# Altium footprint library connectortru.PcbLib: 5 footprints
Each footprint in its own frame and in the unit in brackets; x right, y up, seen from the top. Pads: shape width x height; smd on the part's side, far side on the other; paste and mask are expansions set on the pad; w line width, h text height; cw(c..) or ccw(c..) is an arc to the next point about the centre after c.
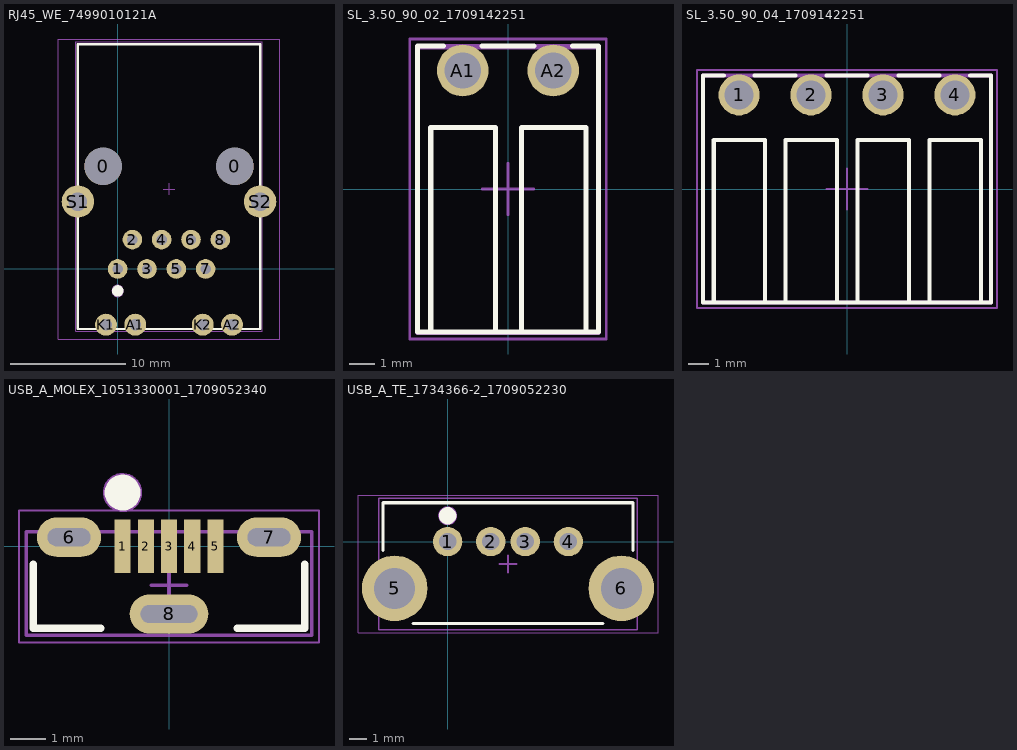
[diagram p0: the footprints below, top view; thin cyan lines are the x and y axes]

## RJ45_WE_7499010121A [mm] "RJ45 100Mb CONNECTOR TRANSFORMER Y/G WE_7499010121A"
height 1.75
pads (16):
  round 3.25 hole 3.25 unplated: 0(-1.27,8.89) 0(10.16,8.89)
  round 1.7 hole 0.9: 1(0,0) 2(1.27,2.54) 3(2.54,0) 4(3.81,2.54) 5(5.08,0) 6(6.35,2.54) 7(7.62,0) 8(8.89,2.54)
  round 1.9 hole 1.02: A1(1.52,-4.83) A2(9.91,-4.83) K1(-1.02,-4.83) K2(7.37,-4.83)
  round 2.8 hole 1.6: S1(-3.455,5.84) S2(12.345,5.84)
Top Overlay:
  circle w0.6: c0,-1.905 r0.2
  lines w0.2: -3.454,-5.207 -3.454,19.482 -0.147,19.482 0.953,19.482 12.344,19.482 12.344,-5.207 -3.454,-5.207
Assembly Outline:
  circle w0.1: c0,-1.905 r0.5
  lines w0.1: -3.655,-5.41 12.545,-5.41 12.545,19.69 -3.655,19.69 -3.655,-5.41
Assembly Refdes:
  text ".Designator" at 4.445,6.93 h0.5
Courtyard Outline:
  lines w0.05: -5.155,-6.07 14.045,-6.07 14.045,19.93 12.545,19.93 -5.155,19.93 -5.155,-6.07
  lines w0.1: 3.945,6.93 4.945,6.93 ; 4.445,6.43 4.445,7.43
3D body "STEP-7499010121A-rev1.stp": height 13.81, standoff -3.59, extent -3.755,-5.532 12.645,19.768

## SL_3.50_90_02_1709142251 [mm] "OMNIMATE Signal - Serie BL/SL 3.50  SL 3.50/02/90 3.2"
height 7.5
pads (2):
  round 2 hole 1.4: A1(-1.75,4.58) A2(1.75,4.58)
Top Overlay:
  lines w0.2: -3.5,2.425 -3.5,-5.525 ; -2.984,-5.525 -2.984,2.382 -0.484,2.382 -0.484,-5.525 ; -2.5,5.525 -3.5,5.525 -3.5,-5.525 ; -1,5.525 1,5.525 ; 0.516,-5.525 0.516,2.382 3.016,2.382 3.016,-5.525 ; 2.5,5.525 3.5,5.525 3.5,-5.525 -3.5,-5.525
Assembly Outline:
  lines w0.2: -3.5,-5.55 3.5,-5.55 3.5,5.5 -3.5,5.5 -3.5,-5.55
Courtyard Outline:
  lines w0.1: -1,0 1,0 ; 0,-1 0,1 ; -3.8,-5.8 3.8,-5.8 3.8,5.8 -3.8,5.8 -3.8,-5.8
3D body "SL_3.5_02_90_3.2SN_OR_BX_1597210000.stp": height 7.46, standoff -3.19, extent -3.5,-5.525 3.5,5.525

## SL_3.50_90_04_1709142251 [mm] "OMNIMATE Signal - Serie BL/SL 3.50  SL 3.50/04/90 3.2"
height 7.5
pads (4):
  round 2 hole 1.4: 1(-5.25,4.58) 2(-1.75,4.58) 3(1.75,4.58) 4(5.25,4.58)
Top Overlay:
  lines w0.2: -7,2.425 -7,-5.525 ; -6.484,-5.525 -6.484,2.382 -3.984,2.382 -3.984,-5.525 ; -6,5.525 -7,5.525 -7,-5.525 ; -4.5,5.525 -2.5,5.525 ; -2.984,-5.525 -2.984,2.382 -0.484,2.382 -0.484,-5.525 ; -1,5.525 1,5.525 ; 0.516,-5.525 0.516,2.382 3.016,2.382 3.016,-5.525 ; 2.5,5.525 4.5,5.525 ; 4.016,-5.525 4.016,2.382 6.516,2.382 6.516,-5.525 ; 6,5.525 7,5.525 7,-5.525 -7,-5.525
Assembly Outline:
  lines w0.2: -7,-5.525 -7,5.525 7,5.525 7,-5.525 -7,-5.525
Courtyard Outline:
  lines w0.1: -1,0 1,0 ; 0,-1 0,1 ; -7.3,-5.8 -7.3,5.8 7.3,5.8 7.3,-5.8 -7.3,-5.8
3D body "SL_3.5_04_90_3.2SN_OR_BX_1597230000.stp": height 7.46, standoff -3.19, extent -7,-5.525 7,5.525

## USB_A_MOLEX_1051330001_1709052340 [mm] "USB MICRO B MOLEX 1051330001"
height 6.7
pads (8):
  rect 0.45x1.5 smd: 1(-1.3,0) 2(-0.65,0) 3(0,0) 4(0.65,0) 5(1.3,0)
  oval 1.8x1.1 hole 0.5 slot 1.2 at 0 deg: 6(-2.8,0.25) 7(2.8,0.25)
  oval 2.2x1.1 hole 0.5 slot 1.6 at 0 deg: 8(0,-1.9)
Top Overlay:
  circle w0.6: c-1.3,1.5 r0.2
  lines w0.2: -3.8,-0.5 -3.8,-2.3 -1.9,-2.3 ; 1.9,-2.3 3.8,-2.3 3.8,-0.5
Assembly Outline:
  circle w0.1: c-1.3,1.5 r0.5
  lines w0.1: -4,-2.5 4,-2.5 4,0.4 -4,0.4 -4,-2.5
Assembly Refdes:
  text ".Designator" at 0,-1.1 h0.5
Courtyard Outline:
  lines w0.05: -4.2,-2.7 4.2,-2.7 4.2,1 -2.085,1 -4.2,1 -4.2,-2.7
  lines w0.1: -0.5,-1.1 0.5,-1.1 ; 0,-1.6 0,-0.6
3D body "1051330001.stp": height 7.53, standoff -2.27, extent -4.012,-3 4.013,1.45

## USB_A_TE_1734366-2_1709052230 [mm] "USB A TE 1734366-2"
height 15
pads (6):
  round 1.7 hole 1: 1(0,0) 2(2.5,0) 3(4.5,0) 4(7,0)
  round 3.8 hole 2.38: 5(-3.07,-2.71) 6(10.07,-2.71)
Top Overlay:
  circle w0.6: c0,1.5 r0.2
  lines w0.2: -3.75,-0.5 -3.75,2.25 10.75,2.25 10.75,-0.5 ; -2,-4.75 9,-4.75
Assembly Outline:
  circle w0.1: c0,1.5 r0.5
  lines w0.1: -4,-5.11 11,-5.11 11,2.51 -4,2.51 -4,-5.11
Assembly Refdes:
  text ".Designator" at 3.5,-1.3 h0.5
Courtyard Outline:
  lines w0.05: -5.2,-5.3 12.2,-5.3 12.2,2.7 -2.485,2.7 -5.2,2.7 -5.2,-5.3
  lines w0.1: 3,-1.3 4,-1.3 ; 3.5,-1.8 3.5,-0.8
3D body "c-1734366-2-c1-3d.stp": height 15.1, standoff -3.83, extent -4.399,-4.86 11.4,2.26